# EAGLE library part PIC16F1459-I-SS_PIC16F1459-I/SS (library angrypig7-IC)
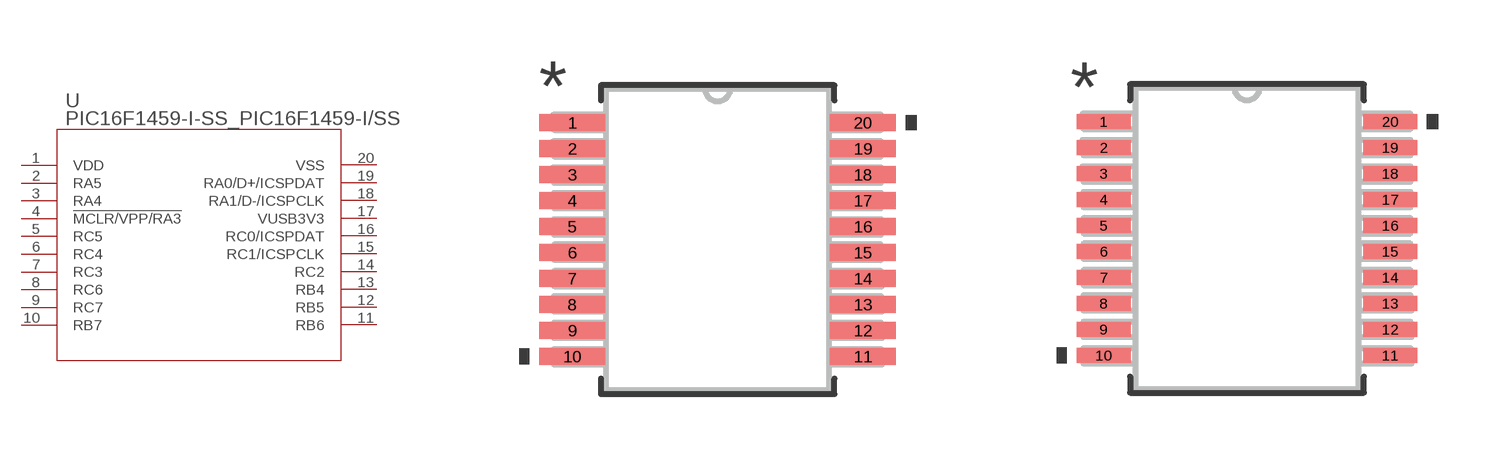
[diagram p1: symbol with the pads of PIC16F1459-I-SS_SSOP20_MC; footprints PIC16F1459-I-SS_SSOP20_MC, PIC16F1459-I-SS_SSOP20_MC-L]

Designator prefix U

## PIC16F1459-I-SS_PIC16F1459-I/SS (MANUFACTURER_PART_NUMBER: PIC16F1459ISS; VENDOR: Microchip)  [PIC16F1459-I-SS_SSOP20_MC]
1  VDD  pwr
2  RA5
3  RA4
4  !MCLR/VPP/RA3
5  RC5
6  RC4
7  RC3
8  RC6
9  RC7
10  RB7
11  RB6
12  RB5
13  RB4
14  RC2
15  RC1/ICSPCLK
16  RC0/ICSPDAT
17  VUSB3V3  pwr
18  RA1/D-/ICSPCLK
19  RA0/D+/ICSPDAT
20  VSS  pwr

## PIC16F1459-I-SS_PIC16F1459-I/SSSSOP20_MC-L (MANUFACTURER_PART_NUMBER: PIC16F1459ISS; VENDOR: Microchip)  [PIC16F1459-I-SS_SSOP20_MC-L]
Pads as for PIC16F1459-I-SS_SSOP20_MC

## PIC16F1459-I-SS_PIC16F1459-I/SSSSOP20_MC-M (MANUFACTURER_PART_NUMBER: PIC16F1459ISS; VENDOR: Microchip)  [PIC16F1459-I-SS_SSOP20_MC-M]
Pads as for PIC16F1459-I-SS_SSOP20_MC

## Footprint PIC16F1459-I-SS_SSOP20_MC (pad centres in mm)
smd 1.651 x 0.432: 1 -3.632,2.925; 2 -3.632,2.275; 3 -3.632,1.625; 4 -3.632,0.975; 5 -3.632,0.325; 6 -3.632,-0.325; 7 -3.632,-0.975; 8 -3.632,-1.625; 9 -3.632,-2.275; 10 -3.632,-2.925; 11 3.632,-2.925; 12 3.632,-2.275; 13 3.632,-1.625; 14 3.632,-0.975; 15 3.632,-0.325; 16 3.632,0.325; 17 3.632,0.975; 18 3.632,1.625; 19 3.632,2.275; 20 3.632,2.925

## Footprint PIC16F1459-I-SS_SSOP20_MC-L (pad centres in mm)
smd 1.346 x 0.381: 1 -3.581,2.925; 2 -3.581,2.275; 3 -3.581,1.625; 4 -3.581,0.975; 5 -3.581,0.325; 6 -3.581,-0.325; 7 -3.581,-0.975; 8 -3.581,-1.625; 9 -3.581,-2.275; 10 -3.581,-2.925; 11 3.581,-2.925; 12 3.581,-2.275; 13 3.581,-1.625; 14 3.581,-0.975; 15 3.581,-0.325; 16 3.581,0.325; 17 3.581,0.975; 18 3.581,1.625; 19 3.581,2.275; 20 3.581,2.925

## Footprint PIC16F1459-I-SS_SSOP20_MC-M (pad centres in mm)
smd 1.956 x 0.483: 1 -3.683,2.925; 2 -3.683,2.275; 3 -3.683,1.625; 4 -3.683,0.975; 5 -3.683,0.325; 6 -3.683,-0.325; 7 -3.683,-0.975; 8 -3.683,-1.625; 9 -3.683,-2.275; 10 -3.683,-2.925; 11 3.683,-2.925; 12 3.683,-2.275; 13 3.683,-1.625; 14 3.683,-0.975; 15 3.683,-0.325; 16 3.683,0.325; 17 3.683,0.975; 18 3.683,1.625; 19 3.683,2.275; 20 3.683,2.925